# Altium schematic symbol library 2017-07-11_20-17-03.SchLib: 2 symbols
Pins are listed as number, name and electrical type; pins without a type are passive.

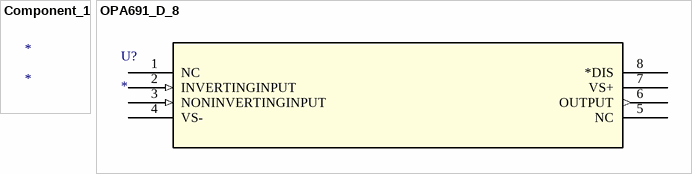
[diagram p0: symbols Component_1 to OPA691_D_8]

## Component_1
designator *

## OPA691_D_8
designator U?
Imported; Manufacturer: Texas Instruments; GENERIC_PART_NUMBER: OPA691; Manufacturer_Part_Number: opa691_d_8; INDUSTRY_STD_PKG_TYPE: SOIC; FAMILY_NAME: CURRENT FEEDBACK; PIN_COUNT: 8; PACKAGE_DESIGNATOR: D; Datasheet_URL: http://www.ti.com/lit/gpn/OPA691; Vendor: Texas Instruments; Value: Value; Type: Type; RefDes: RefDes
footprint D8
pins: 1 NC, 2 INVERTINGINPUT (in), 3 NONINVERTINGINPUT (in), 4 VS- (power), 5 NC, 6 OUTPUT (out), 7 VS+ (power), 8 *DIS